# EAGLE library part USB1046-GF-0190-L-B-A (library SamacSys_Parts)
USB Connectors USB A Skt, Top Mount, SMT, R/A, GF, Black, With 1.9mm shell stake, T&R Source: Datasheet <https://gct.co/files/drawings/usb1046.pdf?v=ccb5d20d-0631-4297-aa3c-9c34fccf9fbc>
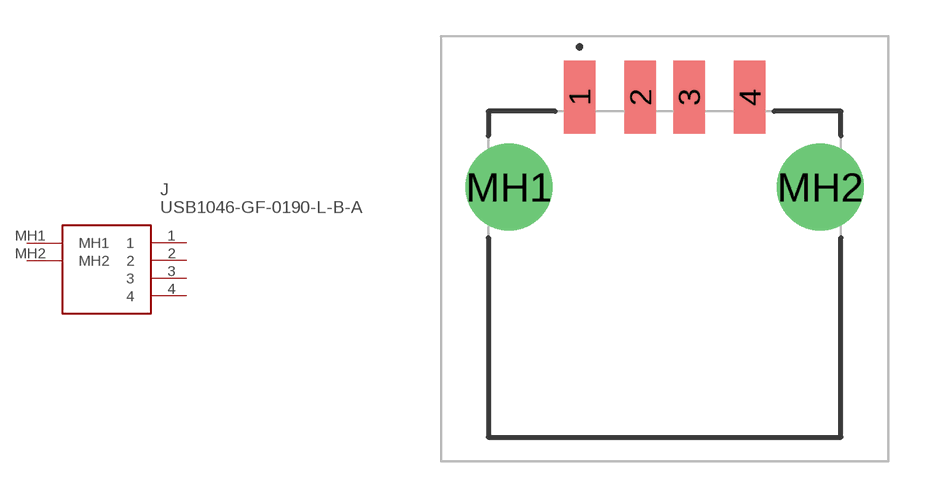
[diagram p30: symbol with the pads of USB1046GF0190LBA; footprint USB1046GF0190LBA]

Designator prefix J

## USB1046-GF-0190-L-B-A (DESCRIPTION: USB Connectors USB A Skt, Top Mount, SMT, R/A, GF, Black, With 1.9mm shell stake, T&R; HEIGHT: 7.2mm; MANUFACTURER_NAME: GCT (GLOBAL CONNECTOR TECHNOLOGY); MANUFACTURER_PART_NUMBER: USB1046-GF-0190-L-B-A; MOUSER_PART_NUMBER: 640-USB1046GF0190LBA; MOUSER_PRICE-STOCK: https://www.mouser.co.uk/ProductDetail/GCT/USB1046-GF-0190-L-B-A?qs=KUoIvG%2F9IlbZOJtEsn1unA%3D%3D)  [USB1046GF0190LBA]
1  1
2  2
3  3
4  4
MH1  MH1
MH2  MH2

## Footprint USB1046GF0190LBA (pad centres in mm)
USB1046-GF-0190-L-B-A-2
smd 1.3 x 3: 1 -3.5,7.28; 2 -1,7.28; 3 1,7.28; 4 3.5,7.28
drill 2.38 pad 3.57: MH1 -6.4,3.58; MH2 6.4,3.58